# Altium schematic symbol library CAP - Surface Mount Ceramic Capacitors 0402.SchLib: 231 symbols (part 5 of 6)
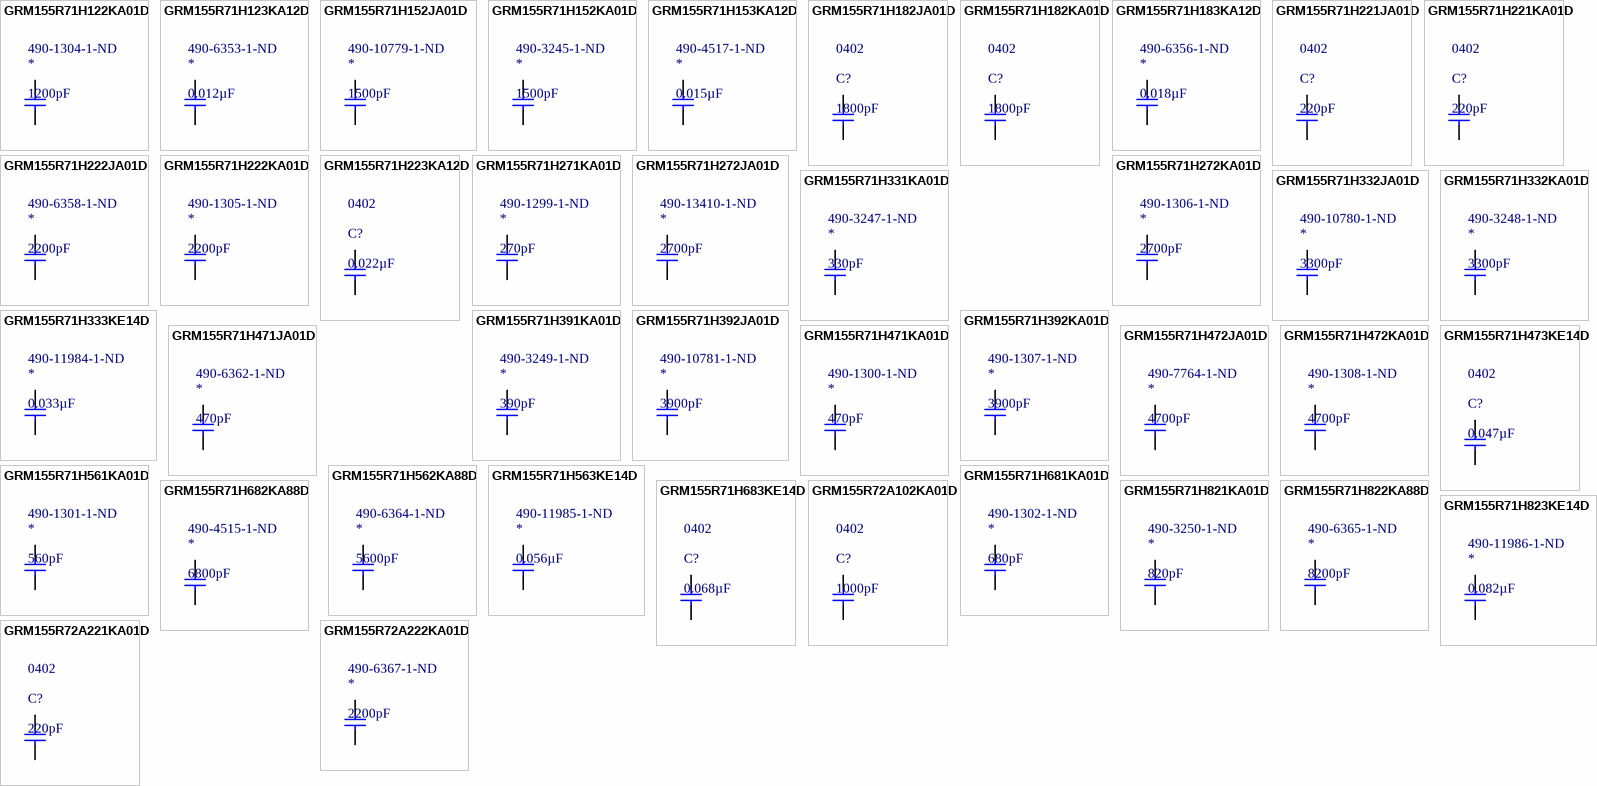
[diagram p9: symbols GRM155R71H122KA01D to GRM155R72A222KA01D]

## GRM155R71H221JA01D
designator C?, comment 220pF  Package: 0402
CAP CER 220PF 50V X7R 0402; Manufacturer: Murata Electronics North America; Manufacturer Part Number: GRM155R71H221JA01D; Tolerance: ±5%; Supplier 1: Digi-Key; RoHS: RoHS Compliant; Category: Capacitors; Stock 1: 58000; Pricing 1: 1=0.1, 10=0.017, 50=0.0092, 100=0.0078, 250=0.00636, 500=0.00544, 1000=0.00424, 5000=0.00354 (USD); Packaging: Cut Tape (CT); Part Status: Active; Capacitance: 220pF; Voltage - Rated: 50V; Temperature Coefficient: X7R; Operating Temperature: -55°C ~ 125°C; Features: -; Ratings: -; Applications: General Purpose; Mounting Type: Surface Mount, MLCC; Size / Dimension: 0.039" L x 0.020" W (1.00mm x 0.50mm); Height - Seated (Max): -; Thickness (Max): 0.022" (0.55mm); Lead Spacing: -; ComponentLink1URL: http://www.murata.com/~/media/webrenewal/support/library/catalog/products/capacitor/mlcc/c02e.ashx; ComponentLink1Description: http://www.murata.com/~/media/webrenewal/support/library/catalog/products/capacitor/mlcc/c02e.ashx; Supplier Part Number 1: 490-6357-1-ND
footprint C 0402 (Chip Capacitor, 2-Leads, Body 1.0x0.5mm, IPC Medium Density)
pins: 1, 2

## GRM155R71H221KA01D
designator C?, comment 220pF  Package: 0402
CAP CER 220PF 50V X7R 0402; Manufacturer: Murata Electronics North America; Manufacturer Part Number: GRM155R71H221KA01D; Tolerance: ±10%; Supplier 1: Digi-Key; RoHS: RoHS Compliant; Category: Capacitors; Stock 1: 517258; Pricing 1: 1=0.1, 10=0.02, 50=0.011, 100=0.0093, 250=0.00764, 500=0.00654, 1000=0.00509, 5000=0.00424 (USD); Packaging: Cut Tape (CT); Part Status: Active; Capacitance: 220pF; Voltage - Rated: 50V; Temperature Coefficient: X7R; Operating Temperature: -55°C ~ 125°C; Features: -; Ratings: -; Applications: General Purpose; Mounting Type: Surface Mount, MLCC; Size / Dimension: 0.039" L x 0.020" W (1.00mm x 0.50mm); Height - Seated (Max): -; Thickness (Max): 0.022" (0.55mm); Lead Spacing: -; Lead Style: -; ComponentLink1URL: http://www.murata.com/~/media/webrenewal/support/library/catalog/products/capacitor/mlcc/c02e.ashx; ComponentLink1Description: http://www.murata.com/~/media/webrenewal/support/library/catalog/products/capacitor/mlcc/c02e.ashx; Supplier Part Number 1: 490-1298-1-ND
footprint C 0402 (Chip Capacitor, 2-Leads, Body 1.0x0.5mm, IPC Medium Density)
pins: 1, 2

## GRM155R71H222JA01D
designator *, comment 2200pF  Supplier Part Number 1: 490-6358-1-ND
CAP CER 2200PF 50V X7R 0402; Manufacturer: Murata Electronics North America; Manufacturer Part Number: GRM155R71H222JA01D; Tolerance: ±5%; Supplier 1: Digi-Key; RoHS: RoHS Compliant; Category: Capacitors; Stock 1: 281187; Pricing 1: 1=0.1, 10=0.013, 50=0.0068, 100=0.0058, 250=0.00472, 500=0.00404, 1000=0.00315, 5000=0.00263 (USD); Packaging: Cut Tape (CT); Part Status: Active; Capacitance: 2200pF; Voltage - Rated: 50V; Temperature Coefficient: X7R; Operating Temperature: -55°C ~ 125°C; Features: -; Ratings: -; Applications: General Purpose; Mounting Type: Surface Mount, MLCC; Package: 0402; Size / Dimension: 0.039" L x 0.020" W (1.00mm x 0.50mm); Height - Seated (Max): -; Thickness (Max): 0.022" (0.55mm); Lead Spacing: -; ComponentLink1URL: http://www.murata.com/~/media/webrenewal/support/library/catalog/products/capacitor/mlcc/c02e.ashx; ComponentLink1Description: http://www.murata.com/~/media/webrenewal/support/library/catalog/products/capacitor/mlcc/c02e.ashx
footprint C 0402 (Chip Capacitor, 2-Leads, Body 1.0x0.5mm, IPC Medium Density)
pins: 1, 2

## GRM155R71H222KA01D
designator *, comment 2200pF  Supplier Part Number 1: 490-1305-1-ND
CAP CER 2200PF 50V X7R 0402; Manufacturer: Murata Electronics North America; Manufacturer Part Number: GRM155R71H222KA01D; Tolerance: ±10%; Supplier 1: Digi-Key; RoHS: RoHS Compliant; Category: Capacitors; Stock 1: 2322112; Pricing 1: 1=0.1, 10=0.013, 50=0.0068, 100=0.0058, 250=0.00472, 500=0.00404, 1000=0.00315, 5000=0.00263 (USD); Packaging: Cut Tape (CT); Part Status: Active; Capacitance: 2200pF; Voltage - Rated: 50V; Temperature Coefficient: X7R; Operating Temperature: -55°C ~ 125°C; Features: -; Ratings: -; Applications: General Purpose; Mounting Type: Surface Mount, MLCC; Package: 0402; Size / Dimension: 0.039" L x 0.020" W (1.00mm x 0.50mm); Height - Seated (Max): -; Thickness (Max): 0.022" (0.55mm); Lead Spacing: -; Lead Style: -; ComponentLink1URL: http://www.murata.com/~/media/webrenewal/support/library/catalog/products/capacitor/mlcc/c02e.ashx; ComponentLink1Description: http://www.murata.com/~/media/webrenewal/support/library/catalog/products/capacitor/mlcc/c02e.ashx
footprint C 0402 (Chip Capacitor, 2-Leads, Body 1.0x0.5mm, IPC Medium Density)
pins: 1, 2

## GRM155R71H223KA12D
designator C?, comment 0.022µF  Package: 0402
CAP CER 0.022UF 50V X7R 0402; Manufacturer: Murata Electronics North America; Manufacturer Part Number: GRM155R71H223KA12D; Tolerance: ±10%; Supplier 1: Digi-Key; RoHS: RoHS Compliant; Category: Capacitors; Stock 1: 792812; Pricing 1: 1=0.1, 10=0.019, 50=0.0106, 100=0.0089, 250=0.00728, 500=0.00622, 1000=0.00485, 5000=0.00404 (USD); Packaging: Cut Tape (CT); Part Status: Active; Capacitance: 0.022µF; Voltage - Rated: 50V; Temperature Coefficient: X7R; Operating Temperature: -55°C ~ 125°C; Features: -; Ratings: -; Applications: General Purpose; Mounting Type: Surface Mount, MLCC; Size / Dimension: 0.039" L x 0.020" W (1.00mm x 0.50mm); Height - Seated (Max): -; Thickness (Max): 0.022" (0.55mm); Lead Spacing: -; Lead Style: -; ComponentLink1URL: http://www.murata.com/~/media/webrenewal/support/library/catalog/products/capacitor/mlcc/c02e.ashx; ComponentLink1Description: http://www.murata.com/~/media/webrenewal/support/library/catalog/products/capacitor/mlcc/c02e.ashx; Supplier Part Number 1: 490-3884-1-ND
footprint C 0402 (Chip Capacitor, 2-Leads, Body 1.0x0.5mm, IPC Medium Density)
pins: 1, 2

## GRM155R71H271KA01D
designator *, comment 270pF  Supplier Part Number 1: 490-1299-1-ND
CAP CER 270PF 50V X7R 0402; Manufacturer: Murata Electronics North America; Manufacturer Part Number: GRM155R71H271KA01D; Tolerance: ±10%; Supplier 1: Digi-Key; RoHS: RoHS Compliant; Category: Capacitors; Stock 1: 229919; Pricing 1: 1=0.1, 10=0.02, 50=0.011, 100=0.0093, 250=0.00764, 500=0.00654, 1000=0.00509, 5000=0.00424 (USD); Packaging: Cut Tape (CT); Part Status: Active; Capacitance: 270pF; Voltage - Rated: 50V; Temperature Coefficient: X7R; Operating Temperature: -55°C ~ 125°C; Features: -; Ratings: -; Applications: General Purpose; Mounting Type: Surface Mount, MLCC; Package: 0402; Size / Dimension: 0.039" L x 0.020" W (1.00mm x 0.50mm); Height - Seated (Max): -; Thickness (Max): 0.022" (0.55mm); Lead Spacing: -; Lead Style: -; ComponentLink1URL: http://www.murata.com/~/media/webrenewal/support/library/catalog/products/capacitor/mlcc/c02e.ashx; ComponentLink1Description: http://www.murata.com/~/media/webrenewal/support/library/catalog/products/capacitor/mlcc/c02e.ashx
footprint C 0402 (Chip Capacitor, 2-Leads, Body 1.0x0.5mm, IPC Medium Density)
pins: 1, 2

## GRM155R71H272JA01D
designator *, comment 2700pF  Supplier Part Number 1: 490-13410-1-ND
CAP CER 2700PF 50V X7R 0402; Manufacturer: Murata Electronics North America; Manufacturer Part Number: GRM155R71H272JA01D; Tolerance: ±5%; Supplier 1: Digi-Key; RoHS: RoHS Compliant; Category: Capacitors; Stock 1: 144080; Pricing 1: 1=0.1, 10=0.018, 50=0.0098, 100=0.0083, 250=0.0068, 500=0.00584, 1000=0.00455, 5000=0.00379 (USD); Packaging: Cut Tape (CT); Part Status: Active; Capacitance: 2700pF; Voltage - Rated: 50V; Temperature Coefficient: X7R; Operating Temperature: -55°C ~ 125°C; Features: -; Ratings: -; Applications: General Purpose; Mounting Type: Surface Mount, MLCC; Package: 0402; Size / Dimension: 0.039" L x 0.020" W (1.00mm x 0.50mm); Height - Seated (Max): -; Thickness (Max): 0.022" (0.55mm); Lead Spacing: -; Lead Style: -; ComponentLink1URL: http://www.murata.com/~/media/webrenewal/support/library/catalog/products/capacitor/mlcc/c02e.ashx; ComponentLink1Description: http://www.murata.com/~/media/webrenewal/support/library/catalog/products/capacitor/mlcc/c02e.ashx
footprint C 0402 (Chip Capacitor, 2-Leads, Body 1.0x0.5mm, IPC Medium Density)
pins: 1, 2

## GRM155R71H272KA01D
designator *, comment 2700pF  Supplier Part Number 1: 490-1306-1-ND
CAP CER 2700PF 50V X7R 0402; Manufacturer: Murata Electronics North America; Manufacturer Part Number: GRM155R71H272KA01D; Tolerance: ±10%; Supplier 1: Digi-Key; RoHS: RoHS Compliant; Category: Capacitors; Stock 1: 254384; Pricing 1: 1=0.1, 10=0.011, 50=0.006, 100=0.005, 250=0.00408, 500=0.0035, 1000=0.00273, 5000=0.00227 (USD); Packaging: Cut Tape (CT); Part Status: Active; Capacitance: 2700pF; Voltage - Rated: 50V; Temperature Coefficient: X7R; Operating Temperature: -55°C ~ 125°C; Features: -; Ratings: -; Applications: General Purpose; Mounting Type: Surface Mount, MLCC; Package: 0402; Size / Dimension: 0.039" L x 0.020" W (1.00mm x 0.50mm); Height - Seated (Max): -; Thickness (Max): 0.022" (0.55mm); Lead Spacing: -; Lead Style: -; ComponentLink1URL: http://www.murata.com/~/media/webrenewal/support/library/catalog/products/capacitor/mlcc/c02e.ashx; ComponentLink1Description: http://www.murata.com/~/media/webrenewal/support/library/catalog/products/capacitor/mlcc/c02e.ashx
footprint C 0402 (Chip Capacitor, 2-Leads, Body 1.0x0.5mm, IPC Medium Density)
pins: 1, 2

## GRM155R71H331KA01D
designator *, comment 330pF  Supplier Part Number 1: 490-3247-1-ND
CAP CER 330PF 50V X7R 0402; Manufacturer: Murata Electronics North America; Manufacturer Part Number: GRM155R71H331KA01D; Tolerance: ±10%; Supplier 1: Digi-Key; RoHS: RoHS Compliant; Category: Capacitors; Stock 1: 481505; Pricing 1: 1=0.1, 10=0.02, 50=0.011, 100=0.0093, 250=0.00764, 500=0.00654, 1000=0.00509, 5000=0.00424 (USD); Packaging: Cut Tape (CT); Part Status: Active; Capacitance: 330pF; Voltage - Rated: 50V; Temperature Coefficient: X7R; Operating Temperature: -55°C ~ 125°C; Features: -; Ratings: -; Applications: General Purpose; Mounting Type: Surface Mount, MLCC; Package: 0402; Size / Dimension: 0.039" L x 0.020" W (1.00mm x 0.50mm); Height - Seated (Max): -; Thickness (Max): 0.022" (0.55mm); Lead Spacing: -; Lead Style: -; ComponentLink1URL: http://www.murata.com/~/media/webrenewal/support/library/catalog/products/capacitor/mlcc/c02e.ashx; ComponentLink1Description: http://www.murata.com/~/media/webrenewal/support/library/catalog/products/capacitor/mlcc/c02e.ashx
footprint C 0402 (Chip Capacitor, 2-Leads, Body 1.0x0.5mm, IPC Medium Density)
pins: 1, 2

## GRM155R71H332JA01D
designator *, comment 3300pF  Supplier Part Number 1: 490-10780-1-ND
CAP CER 3300PF 50V X7R 0402; Manufacturer: Murata Electronics North America; Manufacturer Part Number: GRM155R71H332JA01D; Tolerance: ±5%; Supplier 1: Digi-Key; RoHS: RoHS Compliant; Category: Capacitors; Stock 1: 159582; Pricing 1: 1=0.1, 10=0.018, 50=0.0098, 100=0.0083, 250=0.0068, 500=0.00584, 1000=0.00455, 5000=0.00379 (USD); Packaging: Cut Tape (CT); Part Status: Active; Capacitance: 3300pF; Voltage - Rated: 50V; Temperature Coefficient: X7R; Operating Temperature: -55°C ~ 125°C; Features: -; Ratings: -; Applications: General Purpose; Mounting Type: Surface Mount, MLCC; Package: 0402; Size / Dimension: 0.039" L x 0.020" W (1.00mm x 0.50mm); Height - Seated (Max): -; Thickness (Max): 0.022" (0.55mm); Lead Spacing: -; Lead Style: -; ComponentLink1URL: http://www.murata.com/~/media/webrenewal/support/library/catalog/products/capacitor/mlcc/c02e.ashx; ComponentLink1Description: http://www.murata.com/~/media/webrenewal/support/library/catalog/products/capacitor/mlcc/c02e.ashx
footprint C 0402 (Chip Capacitor, 2-Leads, Body 1.0x0.5mm, IPC Medium Density)
pins: 1, 2

## GRM155R71H332KA01D
designator *, comment 3300pF  Supplier Part Number 1: 490-3248-1-ND
CAP CER 3300PF 50V X7R 0402; Manufacturer: Murata Electronics North America; Manufacturer Part Number: GRM155R71H332KA01D; Tolerance: ±10%; Supplier 1: Digi-Key; RoHS: RoHS Compliant; Category: Capacitors; Stock 1: 729157; Pricing 1: 1=0.1, 10=0.011, 50=0.006, 100=0.005, 250=0.00408, 500=0.0035, 1000=0.00273, 5000=0.00227 (USD); Packaging: Cut Tape (CT); Part Status: Active; Capacitance: 3300pF; Voltage - Rated: 50V; Temperature Coefficient: X7R; Operating Temperature: -55°C ~ 125°C; Features: -; Ratings: -; Applications: General Purpose; Mounting Type: Surface Mount, MLCC; Package: 0402; Size / Dimension: 0.039" L x 0.020" W (1.00mm x 0.50mm); Height - Seated (Max): -; Thickness (Max): 0.022" (0.55mm); Lead Spacing: -; Lead Style: -; ComponentLink1URL: http://www.murata.com/~/media/webrenewal/support/library/catalog/products/capacitor/mlcc/c02e.ashx; ComponentLink1Description: http://www.murata.com/~/media/webrenewal/support/library/catalog/products/capacitor/mlcc/c02e.ashx
footprint C 0402 (Chip Capacitor, 2-Leads, Body 1.0x0.5mm, IPC Medium Density)
pins: 1, 2

## GRM155R71H333KE14D
designator *, comment 0.033µF  Supplier Part Number 1: 490-11984-1-ND
CAP CER 0.033UF 50V X7R 0402; Manufacturer: Murata Electronics North America; Manufacturer Part Number: GRM155R71H333KE14D; Tolerance: ±10%; Supplier 1: Digi-Key; RoHS: RoHS Compliant; Category: Capacitors; Stock 1: 62472; Pricing 1: 1=0.1, 10=0.029, 50=0.0158, 100=0.0133, 250=0.01092, 500=0.00934, 1000=0.00727, 5000=0.00606 (USD); Packaging: Cut Tape (CT); Part Status: Active; Capacitance: 0.033µF; Voltage - Rated: 50V; Temperature Coefficient: X7R; Operating Temperature: -55°C ~ 125°C; Features: -; Ratings: -; Applications: General Purpose; Mounting Type: Surface Mount, MLCC; Package: 0402; Size / Dimension: 0.039" L x 0.020" W (1.00mm x 0.50mm); Height - Seated (Max): -; Thickness (Max): 0.022" (0.55mm); Lead Spacing: -; Lead Style: -; ComponentLink1URL: http://www.murata.com/~/media/webrenewal/support/library/catalog/products/capacitor/mlcc/c02e.ashx; ComponentLink1Description: http://www.murata.com/~/media/webrenewal/support/library/catalog/products/capacitor/mlcc/c02e.ashx
footprint C 0402 (Chip Capacitor, 2-Leads, Body 1.0x0.5mm, IPC Medium Density)
pins: 1, 2

## GRM155R71H391KA01D
designator *, comment 390pF  Supplier Part Number 1: 490-3249-1-ND
CAP CER 390PF 50V X7R 0402; Manufacturer: Murata Electronics North America; Manufacturer Part Number: GRM155R71H391KA01D; Tolerance: ±10%; Supplier 1: Digi-Key; RoHS: RoHS Compliant; Category: Capacitors; Stock 1: 97790; Pricing 1: 1=0.1, 10=0.018, 50=0.0098, 100=0.0083, 250=0.0068, 500=0.00584, 1000=0.00455, 5000=0.00379 (USD); Packaging: Cut Tape (CT); Part Status: Active; Capacitance: 390pF; Voltage - Rated: 50V; Temperature Coefficient: X7R; Operating Temperature: -55°C ~ 125°C; Features: -; Ratings: -; Applications: General Purpose; Mounting Type: Surface Mount, MLCC; Package: 0402; Size / Dimension: 0.039" L x 0.020" W (1.00mm x 0.50mm); Height - Seated (Max): -; Thickness (Max): 0.022" (0.55mm); Lead Spacing: -; Lead Style: -; ComponentLink1URL: http://www.murata.com/~/media/webrenewal/support/library/catalog/products/capacitor/mlcc/c02e.ashx; ComponentLink1Description: http://www.murata.com/~/media/webrenewal/support/library/catalog/products/capacitor/mlcc/c02e.ashx
footprint C 0402 (Chip Capacitor, 2-Leads, Body 1.0x0.5mm, IPC Medium Density)
pins: 1, 2

## GRM155R71H392JA01D
designator *, comment 3900pF  Supplier Part Number 1: 490-10781-1-ND
CAP CER 3900PF 50V X7R 0402; Manufacturer: Murata Electronics North America; Manufacturer Part Number: GRM155R71H392JA01D; Tolerance: ±5%; Supplier 1: Digi-Key; RoHS: RoHS Compliant; Category: Capacitors; Stock 1: 31458; Pricing 1: 1=0.1, 10=0.018, 50=0.0098, 100=0.0083, 250=0.0068, 500=0.00584, 1000=0.00455, 5000=0.00379 (USD); Packaging: Cut Tape (CT); Part Status: Active; Capacitance: 3900pF; Voltage - Rated: 50V; Temperature Coefficient: X7R; Operating Temperature: -55°C ~ 125°C; Features: -; Ratings: -; Applications: General Purpose; Mounting Type: Surface Mount, MLCC; Package: 0402; Size / Dimension: 0.039" L x 0.020" W (1.00mm x 0.50mm); Height - Seated (Max): -; Thickness (Max): 0.022" (0.55mm); Lead Spacing: -; Lead Style: -; ComponentLink1URL: http://www.murata.com/~/media/webrenewal/support/library/catalog/products/capacitor/mlcc/c02e.ashx; ComponentLink1Description: http://www.murata.com/~/media/webrenewal/support/library/catalog/products/capacitor/mlcc/c02e.ashx
footprint C 0402 (Chip Capacitor, 2-Leads, Body 1.0x0.5mm, IPC Medium Density)
pins: 1, 2

## GRM155R71H392KA01D
designator *, comment 3900pF  Supplier Part Number 1: 490-1307-1-ND
CAP CER 3900PF 50V X7R 0402; Manufacturer: Murata Electronics North America; Manufacturer Part Number: GRM155R71H392KA01D; Tolerance: ±10%; Supplier 1: Digi-Key; RoHS: RoHS Compliant; Category: Capacitors; Stock 1: 275703; Pricing 1: 1=0.1, 10=0.011, 50=0.006, 100=0.005, 250=0.00408, 500=0.0035, 1000=0.00273, 5000=0.00227 (USD); Packaging: Cut Tape (CT); Part Status: Active; Capacitance: 3900pF; Voltage - Rated: 50V; Temperature Coefficient: X7R; Operating Temperature: -55°C ~ 125°C; Features: -; Ratings: -; Applications: General Purpose; Mounting Type: Surface Mount, MLCC; Package: 0402; Size / Dimension: 0.039" L x 0.020" W (1.00mm x 0.50mm); Height - Seated (Max): -; Thickness (Max): 0.022" (0.55mm); Lead Spacing: -; Lead Style: -; ComponentLink1URL: http://www.murata.com/~/media/webrenewal/support/library/catalog/products/capacitor/mlcc/c02e.ashx; ComponentLink1Description: http://www.murata.com/~/media/webrenewal/support/library/catalog/products/capacitor/mlcc/c02e.ashx
footprint C 0402 (Chip Capacitor, 2-Leads, Body 1.0x0.5mm, IPC Medium Density)
pins: 1, 2

## GRM155R71H471JA01D
designator *, comment 470pF  Supplier Part Number 1: 490-6362-1-ND
CAP CER 470PF 50V X7R 0402; Manufacturer: Murata Electronics North America; Manufacturer Part Number: GRM155R71H471JA01D; Tolerance: ±5%; Supplier 1: Digi-Key; RoHS: RoHS Compliant; Category: Capacitors; Stock 1: 103130; Pricing 1: 1=0.1, 10=0.021, 50=0.0116, 100=0.0098, 250=0.008, 500=0.00684, 1000=0.00533, 5000=0.00444 (USD); Packaging: Cut Tape (CT); Part Status: Active; Capacitance: 470pF; Voltage - Rated: 50V; Temperature Coefficient: X7R; Operating Temperature: -55°C ~ 125°C; Features: -; Ratings: -; Applications: General Purpose; Mounting Type: Surface Mount, MLCC; Package: 0402; Size / Dimension: 0.039" L x 0.020" W (1.00mm x 0.50mm); Height - Seated (Max): -; Thickness (Max): 0.022" (0.55mm); Lead Spacing: -; ComponentLink1URL: http://www.murata.com/~/media/webrenewal/support/library/catalog/products/capacitor/mlcc/c02e.ashx; ComponentLink1Description: http://www.murata.com/~/media/webrenewal/support/library/catalog/products/capacitor/mlcc/c02e.ashx
footprint C 0402 (Chip Capacitor, 2-Leads, Body 1.0x0.5mm, IPC Medium Density)
pins: 1, 2

## GRM155R71H471KA01D
designator *, comment 470pF  Supplier Part Number 1: 490-1300-1-ND
CAP CER 470PF 50V X7R 0402; Manufacturer: Murata Electronics North America; Manufacturer Part Number: GRM155R71H471KA01D; Tolerance: ±10%; Supplier 1: Digi-Key; RoHS: RoHS Compliant; Category: Capacitors; Stock 1: 904738; Pricing 1: 1=0.1, 10=0.018, 50=0.0098, 100=0.0083, 250=0.0068, 500=0.00584, 1000=0.00455, 5000=0.00379 (USD); Packaging: Cut Tape (CT); Part Status: Active; Capacitance: 470pF; Voltage - Rated: 50V; Temperature Coefficient: X7R; Operating Temperature: -55°C ~ 125°C; Features: -; Ratings: -; Applications: General Purpose; Mounting Type: Surface Mount, MLCC; Package: 0402; Size / Dimension: 0.039" L x 0.020" W (1.00mm x 0.50mm); Height - Seated (Max): -; Thickness (Max): 0.022" (0.55mm); Lead Spacing: -; Lead Style: -; ComponentLink1URL: http://www.murata.com/~/media/webrenewal/support/library/catalog/products/capacitor/mlcc/c02e.ashx; ComponentLink1Description: http://www.murata.com/~/media/webrenewal/support/library/catalog/products/capacitor/mlcc/c02e.ashx
footprint C 0402 (Chip Capacitor, 2-Leads, Body 1.0x0.5mm, IPC Medium Density)
pins: 1, 2

## GRM155R71H472JA01D
designator *, comment 4700pF  Supplier Part Number 1: 490-7764-1-ND
CAP CER 4700PF 50V X7R 0402; Manufacturer: Murata Electronics North America; Manufacturer Part Number: GRM155R71H472JA01D; Tolerance: ±5%; Supplier 1: Digi-Key; RoHS: RoHS Compliant; Category: Capacitors; Stock 1: 219962; Pricing 1: 1=0.1, 10=0.012, 50=0.0066, 100=0.0056, 250=0.00456, 500=0.00388, 1000=0.00303, 5000=0.00253 (USD); Packaging: Cut Tape (CT); Part Status: Active; Capacitance: 4700pF; Voltage - Rated: 50V; Temperature Coefficient: X7R; Operating Temperature: -55°C ~ 125°C; Features: -; Ratings: -; Applications: General Purpose; Mounting Type: Surface Mount, MLCC; Package: 0402; Size / Dimension: 0.039" L x 0.020" W (1.00mm x 0.50mm); Height - Seated (Max): -; Thickness (Max): 0.022" (0.55mm); Lead Spacing: -; Lead Style: -; ComponentLink1URL: http://www.murata.com/~/media/webrenewal/support/library/catalog/products/capacitor/mlcc/c02e.ashx; ComponentLink1Description: http://www.murata.com/~/media/webrenewal/support/library/catalog/products/capacitor/mlcc/c02e.ashx
footprint C 0402 (Chip Capacitor, 2-Leads, Body 1.0x0.5mm, IPC Medium Density)
pins: 1, 2

## GRM155R71H472KA01D
designator *, comment 4700pF  Supplier Part Number 1: 490-1308-1-ND
CAP CER 4700PF 50V X7R 0402; Manufacturer: Murata Electronics North America; Manufacturer Part Number: GRM155R71H472KA01D; Tolerance: ±10%; Supplier 1: Digi-Key; RoHS: RoHS Compliant; Category: Capacitors; Stock 1: 550595; Pricing 1: 1=0.1, 10=0.011, 50=0.006, 100=0.005, 250=0.00408, 500=0.0035, 1000=0.00273, 5000=0.00227 (USD); Packaging: Cut Tape (CT); Part Status: Active; Capacitance: 4700pF; Voltage - Rated: 50V; Temperature Coefficient: X7R; Operating Temperature: -55°C ~ 125°C; Features: -; Ratings: -; Applications: General Purpose; Mounting Type: Surface Mount, MLCC; Package: 0402; Size / Dimension: 0.039" L x 0.020" W (1.00mm x 0.50mm); Height - Seated (Max): -; Thickness (Max): 0.022" (0.55mm); Lead Spacing: -; Lead Style: -; ComponentLink1URL: http://www.murata.com/~/media/webrenewal/support/library/catalog/products/capacitor/mlcc/c02e.ashx; ComponentLink1Description: http://www.murata.com/~/media/webrenewal/support/library/catalog/products/capacitor/mlcc/c02e.ashx
footprint C 0402 (Chip Capacitor, 2-Leads, Body 1.0x0.5mm, IPC Medium Density)
pins: 1, 2

## GRM155R71H473KE14D
designator C?, comment 0.047µF  Package: 0402
CAP CER 0.047UF 50V X7R 0402; Manufacturer: Murata Electronics North America; Manufacturer Part Number: GRM155R71H473KE14D; Tolerance: ±10%; Supplier 1: Digi-Key; RoHS: RoHS Compliant; Category: Capacitors; Stock 1: 191106; Pricing 1: 1=0.1, 10=0.029, 50=0.0158, 100=0.0133, 250=0.01092, 500=0.00934, 1000=0.00727, 5000=0.00606 (USD); Packaging: Cut Tape (CT); Part Status: Active; Capacitance: 0.047µF; Voltage - Rated: 50V; Temperature Coefficient: X7R; Operating Temperature: -55°C ~ 125°C; Features: -; Ratings: -; Applications: General Purpose; Mounting Type: Surface Mount, MLCC; Size / Dimension: 0.039" L x 0.020" W (1.00mm x 0.50mm); Height - Seated (Max): -; Thickness (Max): 0.022" (0.55mm); Lead Spacing: -; Lead Style: -; ComponentLink1URL: http://www.murata.com/~/media/webrenewal/support/library/catalog/products/capacitor/mlcc/c02e.ashx; ComponentLink1Description: http://www.murata.com/~/media/webrenewal/support/library/catalog/products/capacitor/mlcc/c02e.ashx; Supplier Part Number 1: 490-10702-1-ND
footprint C 0402 (Chip Capacitor, 2-Leads, Body 1.0x0.5mm, IPC Medium Density)
pins: 1, 2

## GRM155R71H561KA01D
designator *, comment 560pF  Supplier Part Number 1: 490-1301-1-ND
CAP CER 560PF 50V X7R 0402; Manufacturer: Murata Electronics North America; Manufacturer Part Number: GRM155R71H561KA01D; Tolerance: ±10%; Supplier 1: Digi-Key; RoHS: RoHS Compliant; Category: Capacitors; Stock 1: 218609; Pricing 1: 1=0.1, 10=0.018, 50=0.0098, 100=0.0083, 250=0.0068, 500=0.00584, 1000=0.00455, 5000=0.00379 (USD); Packaging: Cut Tape (CT); Part Status: Active; Capacitance: 560pF; Voltage - Rated: 50V; Temperature Coefficient: X7R; Operating Temperature: -55°C ~ 125°C; Features: -; Ratings: -; Applications: General Purpose; Mounting Type: Surface Mount, MLCC; Package: 0402; Size / Dimension: 0.039" L x 0.020" W (1.00mm x 0.50mm); Height - Seated (Max): -; Thickness (Max): 0.022" (0.55mm); Lead Spacing: -; Lead Style: -; ComponentLink1URL: http://www.murata.com/~/media/webrenewal/support/library/catalog/products/capacitor/mlcc/c02e.ashx; ComponentLink1Description: http://www.murata.com/~/media/webrenewal/support/library/catalog/products/capacitor/mlcc/c02e.ashx
footprint C 0402 (Chip Capacitor, 2-Leads, Body 1.0x0.5mm, IPC Medium Density)
pins: 1, 2

## GRM155R71H562KA88D
designator *, comment 5600pF  Supplier Part Number 1: 490-6364-1-ND
CAP CER 5600PF 50V X7R 0402; Manufacturer: Murata Electronics North America; Manufacturer Part Number: GRM155R71H562KA88D; Tolerance: ±10%; Supplier 1: Digi-Key; RoHS: RoHS Compliant; Category: Capacitors; Stock 1: 104896; Pricing 1: 1=0.1, 10=0.011, 50=0.006, 100=0.005, 250=0.00408, 500=0.0035, 1000=0.00273, 5000=0.00227 (USD); Packaging: Cut Tape (CT); Part Status: Active; Capacitance: 5600pF; Voltage - Rated: 50V; Temperature Coefficient: X7R; Operating Temperature: -55°C ~ 125°C; Features: -; Ratings: -; Applications: General Purpose; Mounting Type: Surface Mount, MLCC; Package: 0402; Size / Dimension: 0.039" L x 0.020" W (1.00mm x 0.50mm); Height - Seated (Max): -; Thickness (Max): 0.022" (0.55mm); Lead Spacing: -; ComponentLink1URL: http://www.murata.com/~/media/webrenewal/support/library/catalog/products/capacitor/mlcc/c02e.ashx; ComponentLink1Description: http://www.murata.com/~/media/webrenewal/support/library/catalog/products/capacitor/mlcc/c02e.ashx
footprint C 0402 (Chip Capacitor, 2-Leads, Body 1.0x0.5mm, IPC Medium Density)
pins: 1, 2

## GRM155R71H563KE14D
designator *, comment 0.056µF  Supplier Part Number 1: 490-11985-1-ND
CAP CER 0.056UF 50V X7R 0402; Manufacturer: Murata Electronics North America; Manufacturer Part Number: GRM155R71H563KE14D; Tolerance: ±10%; Supplier 1: Digi-Key; RoHS: RoHS Compliant; Category: Capacitors; Stock 1: 66891; Pricing 1: 1=0.1, 10=0.029, 50=0.0158, 100=0.0133, 250=0.01092, 500=0.00934, 1000=0.00727, 5000=0.00606 (USD); Packaging: Cut Tape (CT); Part Status: Active; Capacitance: 0.056µF; Voltage - Rated: 50V; Temperature Coefficient: X7R; Operating Temperature: -55°C ~ 125°C; Features: -; Ratings: -; Applications: General Purpose; Mounting Type: Surface Mount, MLCC; Package: 0402; Size / Dimension: 0.039" L x 0.020" W (1.00mm x 0.50mm); Height - Seated (Max): -; Thickness (Max): 0.022" (0.55mm); Lead Spacing: -; Lead Style: -; ComponentLink1URL: http://www.murata.com/~/media/webrenewal/support/library/catalog/products/capacitor/mlcc/c02e.ashx; ComponentLink1Description: http://www.murata.com/~/media/webrenewal/support/library/catalog/products/capacitor/mlcc/c02e.ashx
footprint C 0402 (Chip Capacitor, 2-Leads, Body 1.0x0.5mm, IPC Medium Density)
pins: 1, 2

## GRM155R71H681KA01D
designator *, comment 680pF  Supplier Part Number 1: 490-1302-1-ND
CAP CER 680PF 50V X7R 0402; Manufacturer: Murata Electronics North America; Manufacturer Part Number: GRM155R71H681KA01D; Tolerance: ±10%; Supplier 1: Digi-Key; RoHS: RoHS Compliant; Category: Capacitors; Stock 1: 353845; Pricing 1: 1=0.1, 10=0.02, 50=0.011, 100=0.0093, 250=0.00764, 500=0.00654, 1000=0.00509, 5000=0.00424 (USD); Packaging: Cut Tape (CT); Part Status: Active; Capacitance: 680pF; Voltage - Rated: 50V; Temperature Coefficient: X7R; Operating Temperature: -55°C ~ 125°C; Features: -; Ratings: -; Applications: General Purpose; Mounting Type: Surface Mount, MLCC; Package: 0402; Size / Dimension: 0.039" L x 0.020" W (1.00mm x 0.50mm); Height - Seated (Max): -; Thickness (Max): 0.022" (0.55mm); Lead Spacing: -; Lead Style: -; ComponentLink1URL: http://www.murata.com/~/media/webrenewal/support/library/catalog/products/capacitor/mlcc/c02e.ashx; ComponentLink1Description: http://www.murata.com/~/media/webrenewal/support/library/catalog/products/capacitor/mlcc/c02e.ashx
footprint C 0402 (Chip Capacitor, 2-Leads, Body 1.0x0.5mm, IPC Medium Density)
pins: 1, 2

## GRM155R71H682KA88D
designator *, comment 6800pF  Supplier Part Number 1: 490-4515-1-ND
CAP CER 6800PF 50V X7R 0402; Manufacturer: Murata Electronics North America; Manufacturer Part Number: GRM155R71H682KA88D; Tolerance: ±10%; Supplier 1: Digi-Key; RoHS: RoHS Compliant; Category: Capacitors; Stock 1: 180001; Pricing 1: 1=0.1, 10=0.011, 50=0.006, 100=0.005, 250=0.00408, 500=0.0035, 1000=0.00273, 5000=0.00227 (USD); Packaging: Cut Tape (CT); Part Status: Active; Capacitance: 6800pF; Voltage - Rated: 50V; Temperature Coefficient: X7R; Operating Temperature: -55°C ~ 125°C; Features: -; Ratings: -; Applications: General Purpose; Mounting Type: Surface Mount, MLCC; Package: 0402; Size / Dimension: 0.039" L x 0.020" W (1.00mm x 0.50mm); Height - Seated (Max): -; Thickness (Max): 0.022" (0.55mm); Lead Spacing: -; Lead Style: -; ComponentLink1URL: http://www.murata.com/~/media/webrenewal/support/library/catalog/products/capacitor/mlcc/c02e.ashx; ComponentLink1Description: http://www.murata.com/~/media/webrenewal/support/library/catalog/products/capacitor/mlcc/c02e.ashx
footprint C 0402 (Chip Capacitor, 2-Leads, Body 1.0x0.5mm, IPC Medium Density)
pins: 1, 2

## GRM155R71H683KE14D
designator C?, comment 0.068µF  Package: 0402
CAP CER 0.068UF 50V X7R 0402; Manufacturer: Murata Electronics North America; Manufacturer Part Number: GRM155R71H683KE14D; Tolerance: ±10%; Supplier 1: Digi-Key; RoHS: RoHS Compliant; Category: Capacitors; Stock 1: 110270; Pricing 1: 1=0.1, 10=0.029, 50=0.0158, 100=0.0133, 250=0.01092, 500=0.00934, 1000=0.00727, 5000=0.00606 (USD); Packaging: Cut Tape (CT); Part Status: Active; Capacitance: 0.068µF; Voltage - Rated: 50V; Temperature Coefficient: X7R; Operating Temperature: -55°C ~ 125°C; Features: -; Ratings: -; Applications: General Purpose; Mounting Type: Surface Mount, MLCC; Size / Dimension: 0.039" L x 0.020" W (1.00mm x 0.50mm); Height - Seated (Max): -; Thickness (Max): 0.022" (0.55mm); Lead Spacing: -; Lead Style: -; ComponentLink1URL: http://www.murata.com/~/media/webrenewal/support/library/catalog/products/capacitor/mlcc/c02e.ashx; ComponentLink1Description: http://www.murata.com/~/media/webrenewal/support/library/catalog/products/capacitor/mlcc/c02e.ashx; Supplier Part Number 1: 490-12709-1-ND
footprint C 0402 (Chip Capacitor, 2-Leads, Body 1.0x0.5mm, IPC Medium Density)
pins: 1, 2

## GRM155R71H821KA01D
designator *, comment 820pF  Supplier Part Number 1: 490-3250-1-ND
CAP CER 820PF 50V X7R 0402; Manufacturer: Murata Electronics North America; Manufacturer Part Number: GRM155R71H821KA01D; Tolerance: ±10%; Supplier 1: Digi-Key; RoHS: RoHS Compliant; Category: Capacitors; Stock 1: 237926; Pricing 1: 1=0.1, 10=0.02, 50=0.011, 100=0.0093, 250=0.00764, 500=0.00654, 1000=0.00509, 5000=0.00424 (USD); Packaging: Cut Tape (CT); Part Status: Active; Capacitance: 820pF; Voltage - Rated: 50V; Temperature Coefficient: X7R; Operating Temperature: -55°C ~ 125°C; Features: -; Ratings: -; Applications: General Purpose; Mounting Type: Surface Mount, MLCC; Package: 0402; Size / Dimension: 0.039" L x 0.020" W (1.00mm x 0.50mm); Height - Seated (Max): -; Thickness (Max): 0.022" (0.55mm); Lead Spacing: -; Lead Style: -; ComponentLink1URL: http://www.murata.com/~/media/webrenewal/support/library/catalog/products/capacitor/mlcc/c02e.ashx; ComponentLink1Description: http://www.murata.com/~/media/webrenewal/support/library/catalog/products/capacitor/mlcc/c02e.ashx
footprint C 0402 (Chip Capacitor, 2-Leads, Body 1.0x0.5mm, IPC Medium Density)
pins: 1, 2

## GRM155R71H822KA88D
designator *, comment 8200pF  Supplier Part Number 1: 490-6365-1-ND
CAP CER 8200PF 50V X7R 0402; Manufacturer: Murata Electronics North America; Manufacturer Part Number: GRM155R71H822KA88D; Tolerance: ±10%; Supplier 1: Digi-Key; RoHS: RoHS Compliant; Category: Capacitors; Stock 1: 42320; Pricing 1: 1=0.1, 10=0.042, 50=0.023, 100=0.0194, 250=0.01592, 500=0.0136, 1000=0.01061, 5000=0.00884 (USD); Packaging: Cut Tape (CT); Part Status: Active; Capacitance: 8200pF; Voltage - Rated: 50V; Temperature Coefficient: X7R; Operating Temperature: -55°C ~ 125°C; Features: -; Ratings: -; Applications: General Purpose; Mounting Type: Surface Mount, MLCC; Package: 0402; Size / Dimension: 0.039" L x 0.020" W (1.00mm x 0.50mm); Height - Seated (Max): -; Thickness (Max): 0.022" (0.55mm); Lead Spacing: -; ComponentLink1URL: http://www.murata.com/~/media/webrenewal/support/library/catalog/products/capacitor/mlcc/c02e.ashx; ComponentLink1Description: http://www.murata.com/~/media/webrenewal/support/library/catalog/products/capacitor/mlcc/c02e.ashx
footprint C 0402 (Chip Capacitor, 2-Leads, Body 1.0x0.5mm, IPC Medium Density)
pins: 1, 2

## GRM155R71H823KE14D
designator *, comment 0.082µF  Supplier Part Number 1: 490-11986-1-ND
CAP CER 0.082UF 50V X7R 0402; Manufacturer: Murata Electronics North America; Manufacturer Part Number: GRM155R71H823KE14D; Tolerance: ±10%; Supplier 1: Digi-Key; RoHS: RoHS Compliant; Category: Capacitors; Stock 1: 19456; Pricing 1: 1=0.1, 10=0.029, 50=0.0158, 100=0.0133, 250=0.01092, 500=0.00934, 1000=0.00727, 5000=0.00606 (USD); Packaging: Cut Tape (CT); Part Status: Active; Capacitance: 0.082µF; Voltage - Rated: 50V; Temperature Coefficient: X7R; Operating Temperature: -55°C ~ 125°C; Features: -; Ratings: -; Applications: General Purpose; Mounting Type: Surface Mount, MLCC; Package: 0402; Size / Dimension: 0.039" L x 0.020" W (1.00mm x 0.50mm); Height - Seated (Max): -; Thickness (Max): 0.022" (0.55mm); Lead Spacing: -; Lead Style: -; ComponentLink1URL: http://www.murata.com/~/media/webrenewal/support/library/catalog/products/capacitor/mlcc/c02e.ashx; ComponentLink1Description: http://www.murata.com/~/media/webrenewal/support/library/catalog/products/capacitor/mlcc/c02e.ashx
footprint C 0402 (Chip Capacitor, 2-Leads, Body 1.0x0.5mm, IPC Medium Density)
pins: 1, 2

## GRM155R72A102KA01D
designator C?, comment 1000pF  Package: 0402
CAP CER 1000PF 100V X7R 0402; Manufacturer: Murata Electronics North America; Manufacturer Part Number: GRM155R72A102KA01D; Tolerance: ±10%; Supplier 1: Digi-Key; RoHS: RoHS Compliant; Category: Capacitors; Stock 1: 702270; Pricing 1: 1=0.1, 10=0.018, 50=0.01, 100=0.0084, 250=0.00692, 500=0.00592, 1000=0.00461, 5000=0.00384 (USD); Packaging: Cut Tape (CT); Part Status: Active; Capacitance: 1000pF; Voltage - Rated: 100V; Temperature Coefficient: X7R; Operating Temperature: -55°C ~ 125°C; Features: -; Ratings: -; Applications: General Purpose; Mounting Type: Surface Mount, MLCC; Size / Dimension: 0.039" L x 0.020" W (1.00mm x 0.50mm); Height - Seated (Max): -; Thickness (Max): 0.022" (0.55mm); Lead Spacing: -; ComponentLink1URL: http://www.murata.com/~/media/webrenewal/support/library/catalog/products/capacitor/mlcc/c02e.ashx; ComponentLink1Description: http://www.murata.com/~/media/webrenewal/support/library/catalog/products/capacitor/mlcc/c02e.ashx; Supplier Part Number 1: 490-6366-1-ND
footprint C 0402 (Chip Capacitor, 2-Leads, Body 1.0x0.5mm, IPC Medium Density)
pins: 1, 2

## GRM155R72A221KA01D
designator C?, comment 220pF  Package: 0402
CAP CER 220PF 100V X7R 0402; Manufacturer: Murata Electronics North America; Manufacturer Part Number: GRM155R72A221KA01D; Tolerance: ±10%; Supplier 1: Digi-Key; RoHS: RoHS Compliant; Category: Capacitors; Stock 1: 97615; Pricing 1: 1=0.1, 10=0.051, 50=0.0276, 100=0.0233, 250=0.01908, 500=0.01634, 1000=0.01273, 5000=0.01061 (USD); Packaging: Cut Tape (CT); Part Status: Active; Capacitance: 220pF; Voltage - Rated: 100V; Temperature Coefficient: X7R; Operating Temperature: -55°C ~ 125°C; Features: -; Ratings: -; Applications: General Purpose; Mounting Type: Surface Mount, MLCC; Size / Dimension: 0.039" L x 0.020" W (1.00mm x 0.50mm); Height - Seated (Max): -; Thickness (Max): 0.022" (0.55mm); Lead Spacing: -; Lead Style: -; ComponentLink1URL: http://www.murata.com/~/media/webrenewal/support/library/catalog/products/capacitor/mlcc/c02e.ashx; ComponentLink1Description: http://www.murata.com/~/media/webrenewal/support/library/catalog/products/capacitor/mlcc/c02e.ashx; Supplier Part Number 1: 490-8260-1-ND
footprint C 0402 (Chip Capacitor, 2-Leads, Body 1.0x0.5mm, IPC Medium Density)
pins: 1, 2

## GRM155R72A222KA01D
designator *, comment 2200pF  Supplier Part Number 1: 490-6367-1-ND
CAP CER 2200PF 100V X7R 0402; Manufacturer: Murata Electronics North America; Manufacturer Part Number: GRM155R72A222KA01D; Tolerance: ±10%; Supplier 1: Digi-Key; RoHS: RoHS Compliant; Category: Capacitors; Stock 1: 71357; Pricing 1: 1=0.1, 10=0.024, 50=0.0132, 100=0.0111, 250=0.00908, 500=0.00778, 1000=0.00606, 5000=0.00505 (USD); Packaging: Cut Tape (CT); Part Status: Active; Capacitance: 2200pF; Voltage - Rated: 100V; Temperature Coefficient: X7R; Operating Temperature: -55°C ~ 125°C; Features: -; Ratings: -; Applications: General Purpose; Mounting Type: Surface Mount, MLCC; Package: 0402; Size / Dimension: 0.039" L x 0.020" W (1.00mm x 0.50mm); Height - Seated (Max): -; Thickness (Max): 0.022" (0.55mm); Lead Spacing: -; ComponentLink1URL: http://www.murata.com/~/media/webrenewal/support/library/catalog/products/capacitor/mlcc/c02e.ashx; ComponentLink1Description: http://www.murata.com/~/media/webrenewal/support/library/catalog/products/capacitor/mlcc/c02e.ashx
footprint C 0402 (Chip Capacitor, 2-Leads, Body 1.0x0.5mm, IPC Medium Density)
pins: 1, 2

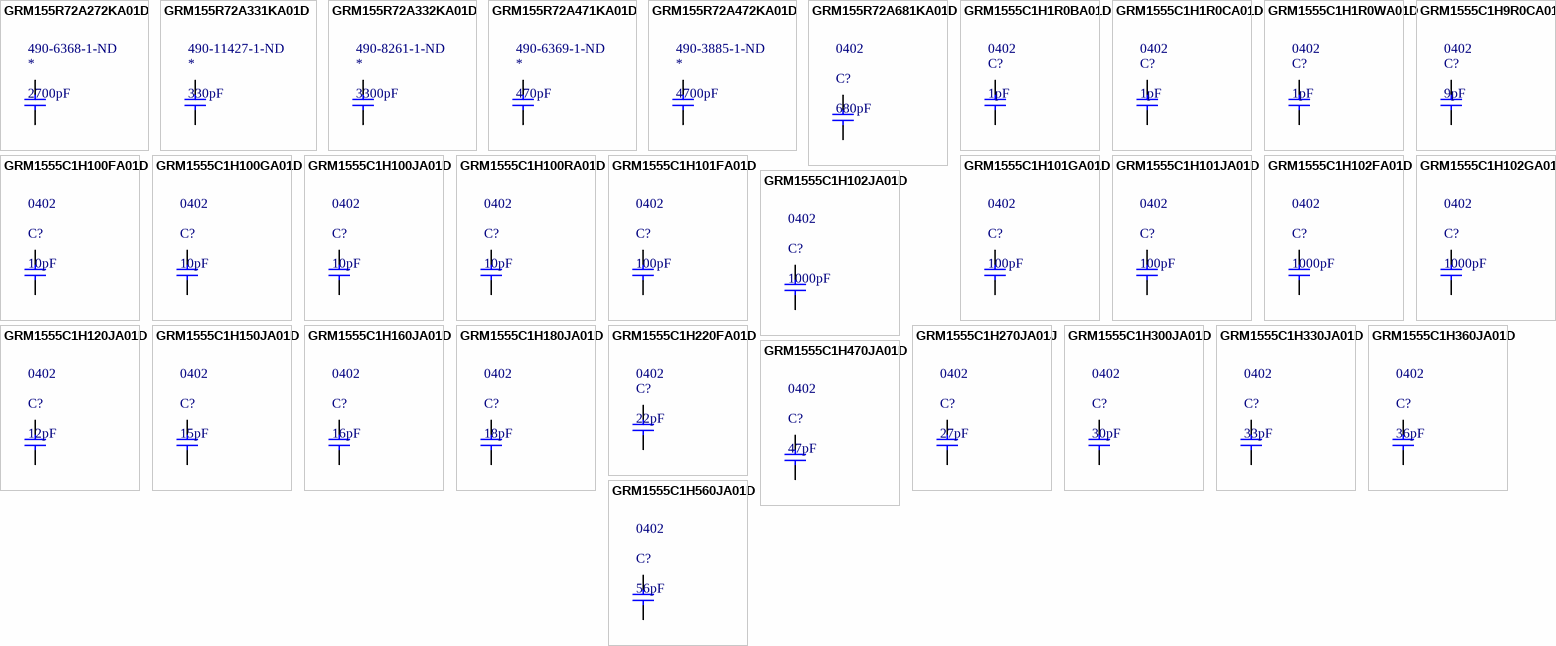
[diagram p5: symbols GRM155R72A272KA01D to GRM1555C1H560JA01D]

## GRM155R72A272KA01D
designator *, comment 2700pF  Supplier Part Number 1: 490-6368-1-ND
CAP CER 2700PF 100V X7R 0402; Manufacturer: Murata Electronics North America; Manufacturer Part Number: GRM155R72A272KA01D; Tolerance: ±10%; Supplier 1: Digi-Key; RoHS: RoHS Compliant; Category: Capacitors; Stock 1: 9912; Pricing 1: 1=0.1, 10=0.05, 50=0.027, 100=0.0228, 250=0.01864, 500=0.01594, 1000=0.01242, 5000=0.01035 (USD); Packaging: Cut Tape (CT); Part Status: Active; Capacitance: 2700pF; Voltage - Rated: 100V; Temperature Coefficient: X7R; Operating Temperature: -55°C ~ 125°C; Features: -; Ratings: -; Applications: General Purpose; Mounting Type: Surface Mount, MLCC; Package: 0402; Size / Dimension: 0.039" L x 0.020" W (1.00mm x 0.50mm); Height - Seated (Max): -; Thickness (Max): 0.022" (0.55mm); Lead Spacing: -; ComponentLink1URL: http://www.murata.com/~/media/webrenewal/support/library/catalog/products/capacitor/mlcc/c02e.ashx; ComponentLink1Description: http://www.murata.com/~/media/webrenewal/support/library/catalog/products/capacitor/mlcc/c02e.ashx
footprint C 0402 (Chip Capacitor, 2-Leads, Body 1.0x0.5mm, IPC Medium Density)
pins: 1, 2

## GRM155R72A331KA01D
designator *, comment 330pF  Supplier Part Number 1: 490-11427-1-ND
CAP CER 330PF 100V X7R 0402; Manufacturer: Murata Electronics North America; Manufacturer Part Number: GRM155R72A331KA01D; Tolerance: ±10%; Supplier 1: Digi-Key; RoHS: RoHS Compliant; Category: Capacitors; Stock 1: 14763; Pricing 1: 1=0.1, 10=0.051, 50=0.0276, 100=0.0233, 250=0.01908, 500=0.01634, 1000=0.01273, 5000=0.01061 (USD); Packaging: Cut Tape (CT); Part Status: Active; Capacitance: 330pF; Voltage - Rated: 100V; Temperature Coefficient: X7R; Operating Temperature: -55°C ~ 125°C; Features: -; Ratings: -; Applications: General Purpose; Mounting Type: Surface Mount, MLCC; Package: 0402; Size / Dimension: 0.039" L x 0.020" W (1.00mm x 0.50mm); Height - Seated (Max): -; Thickness (Max): 0.022" (0.55mm); Lead Spacing: -; Lead Style: -; ComponentLink1URL: http://www.murata.com/~/media/webrenewal/support/library/catalog/products/capacitor/mlcc/c02e.ashx; ComponentLink1Description: http://www.murata.com/~/media/webrenewal/support/library/catalog/products/capacitor/mlcc/c02e.ashx
footprint C 0402 (Chip Capacitor, 2-Leads, Body 1.0x0.5mm, IPC Medium Density)
pins: 1, 2

## GRM155R72A332KA01D
designator *, comment 3300pF  Supplier Part Number 1: 490-8261-1-ND
CAP CER 3300PF 100V X7R 0402; Manufacturer: Murata Electronics North America; Manufacturer Part Number: GRM155R72A332KA01D; Tolerance: ±10%; Supplier 1: Digi-Key; RoHS: RoHS Compliant; Category: Capacitors; Stock 1: 45384; Pricing 1: 1=0.1, 10=0.05, 50=0.027, 100=0.0228, 250=0.01864, 500=0.01594, 1000=0.01242, 5000=0.01035 (USD); Packaging: Cut Tape (CT); Part Status: Active; Capacitance: 3300pF; Voltage - Rated: 100V; Temperature Coefficient: X7R; Operating Temperature: -55°C ~ 125°C; Features: -; Ratings: -; Applications: General Purpose; Mounting Type: Surface Mount, MLCC; Package: 0402; Size / Dimension: 0.039" L x 0.020" W (1.00mm x 0.50mm); Height - Seated (Max): -; Thickness (Max): 0.022" (0.55mm); Lead Spacing: -; Lead Style: -; ComponentLink1URL: http://www.murata.com/~/media/webrenewal/support/library/catalog/products/capacitor/mlcc/c02e.ashx; ComponentLink1Description: http://www.murata.com/~/media/webrenewal/support/library/catalog/products/capacitor/mlcc/c02e.ashx
footprint C 0402 (Chip Capacitor, 2-Leads, Body 1.0x0.5mm, IPC Medium Density)
pins: 1, 2

## GRM155R72A471KA01D
designator *, comment 470pF  Supplier Part Number 1: 490-6369-1-ND
CAP CER 470PF 100V X7R 0402; Manufacturer: Murata Electronics North America; Manufacturer Part Number: GRM155R72A471KA01D; Tolerance: ±10%; Supplier 1: Digi-Key; RoHS: RoHS Compliant; Category: Capacitors; Stock 1: 117037; Pricing 1: 1=0.1, 10=0.027, 50=0.0144, 100=0.0122, 250=0.01, 500=0.00856, 1000=0.00667, 5000=0.00556 (USD); Packaging: Cut Tape (CT); Part Status: Active; Capacitance: 470pF; Voltage - Rated: 100V; Temperature Coefficient: X7R; Operating Temperature: -55°C ~ 125°C; Features: -; Ratings: -; Applications: General Purpose; Mounting Type: Surface Mount, MLCC; Package: 0402; Size / Dimension: 0.039" L x 0.020" W (1.00mm x 0.50mm); Height - Seated (Max): -; Thickness (Max): 0.022" (0.55mm); Lead Spacing: -; ComponentLink1URL: http://www.murata.com/~/media/webrenewal/support/library/catalog/products/capacitor/mlcc/c02e.ashx; ComponentLink1Description: http://www.murata.com/~/media/webrenewal/support/library/catalog/products/capacitor/mlcc/c02e.ashx
footprint C 0402 (Chip Capacitor, 2-Leads, Body 1.0x0.5mm, IPC Medium Density)
pins: 1, 2

## GRM155R72A472KA01D
designator *, comment 4700pF  Supplier Part Number 1: 490-3885-1-ND
CAP CER 4700PF 100V X7R 0402; Manufacturer: Murata Electronics North America; Manufacturer Part Number: GRM155R72A472KA01D; Tolerance: ±10%; Supplier 1: Digi-Key; RoHS: RoHS Compliant; Category: Capacitors; Stock 1: 310567; Pricing 1: 1=0.1, 10=0.019, 50=0.0106, 100=0.0089, 250=0.00728, 500=0.00622, 1000=0.00485, 5000=0.00404 (USD); Packaging: Cut Tape (CT); Part Status: Active; Capacitance: 4700pF; Voltage - Rated: 100V; Temperature Coefficient: X7R; Operating Temperature: -55°C ~ 125°C; Features: -; Ratings: -; Applications: General Purpose; Mounting Type: Surface Mount, MLCC; Package: 0402; Size / Dimension: 0.039" L x 0.020" W (1.00mm x 0.50mm); Height - Seated (Max): -; Thickness (Max): 0.022" (0.55mm); Lead Spacing: -; Lead Style: -; ComponentLink1URL: http://www.murata.com/~/media/webrenewal/support/library/catalog/products/capacitor/mlcc/c02e.ashx; ComponentLink1Description: http://www.murata.com/~/media/webrenewal/support/library/catalog/products/capacitor/mlcc/c02e.ashx
footprint C 0402 (Chip Capacitor, 2-Leads, Body 1.0x0.5mm, IPC Medium Density)
pins: 1, 2

## GRM155R72A681KA01D
designator C?, comment 680pF  Package: 0402
CAP CER 680PF 100V X7R 0402; Manufacturer: Murata Electronics North America; Manufacturer Part Number: GRM155R72A681KA01D; Tolerance: ±10%; Supplier 1: Digi-Key; RoHS: RoHS Compliant; Category: Capacitors; Stock 1: 16653; Pricing 1: 1=0.1, 10=0.051, 50=0.0276, 100=0.0233, 250=0.01908, 500=0.01634, 1000=0.01273, 5000=0.01061 (USD); Packaging: Cut Tape (CT); Part Status: Active; Capacitance: 680pF; Voltage - Rated: 100V; Temperature Coefficient: X7R; Operating Temperature: -55°C ~ 125°C; Features: -; Ratings: -; Applications: General Purpose; Mounting Type: Surface Mount, MLCC; Size / Dimension: 0.039" L x 0.020" W (1.00mm x 0.50mm); Height - Seated (Max): -; Thickness (Max): 0.022" (0.55mm); Lead Spacing: -; Lead Style: -; ComponentLink1URL: http://www.murata.com/~/media/webrenewal/support/library/catalog/products/capacitor/mlcc/c02e.ashx; ComponentLink1Description: http://www.murata.com/~/media/webrenewal/support/library/catalog/products/capacitor/mlcc/c02e.ashx; Supplier Part Number 1: 490-8262-1-ND
footprint C 0402 (Chip Capacitor, 2-Leads, Body 1.0x0.5mm, IPC Medium Density)
pins: 1, 2

## GRM1555C1H1R0BA01D
designator C?, comment 1pF  Package: 0402
CAP CER 1PF 50V NP0 0402; Manufacturer: Murata Electronics North America; Manufacturer Part Number: GRM1555C1H1R0BA01D; Tolerance: ±0.1pF; Temperature Coefficient: C0G, NP0; Supplier 1: Digi-Key; Supplier Part Number 1: 490-6206-1-ND; RoHS: RoHS Compliant; Category: Capacitors; Stock 1: 31855; Pricing 1: 1=0.1, 10=0.028, 25=0.0204, 50=0.0154, 100=0.0125, 250=0.01048, 500=0.00894, 1000=0.00703, 5000=0.00588 (USD); Packaging: Cut Tape (CT); Part Status: Active; Capacitance: 1pF; Voltage - Rated: 50V; Operating Temperature: -55°C ~ 125°C; Features: -; Ratings: -; Applications: General Purpose; Mounting Type: Surface Mount, MLCC; Size / Dimension: 0.039" L x 0.020" W (1.00mm x 0.50mm); Height - Seated (Max): -; Thickness (Max): 0.022" (0.55mm); Lead Spacing: -; Lead Style: -; ComponentLink1URL: http://www.murata.com/~/media/webrenewal/support/library/catalog/products/capacitor/mlcc/c02e.ashx; ComponentLink1Description: http://www.murata.com/~/media/webrenewal/support/library/catalog/products/capacitor/mlcc/c02e.ashx
footprint C 0402 (Chip Capacitor, 2-Leads, Body 1.0x0.5mm, IPC Medium Density)
pins: 1, 2

## GRM1555C1H1R0CA01D
designator C?, comment 1pF  Package: 0402
CAP CER 1PF 50V NP0 0402; Manufacturer: Murata Electronics North America; Manufacturer Part Number: GRM1555C1H1R0CA01D; Tolerance: ±0.25pF; Temperature Coefficient: C0G, NP0; Supplier 1: Digi-Key; Supplier Part Number 1: 490-3199-1-ND; RoHS: RoHS Compliant; Category: Capacitors; Stock 1: 467976; Pricing 1: 1=0.1, 10=0.016, 25=0.012, 50=0.009, 100=0.0073, 250=0.00608, 500=0.0052, 1000=0.00408, 5000=0.00341 (USD); Packaging: Cut Tape (CT); Part Status: Active; Capacitance: 1pF; Voltage - Rated: 50V; Operating Temperature: -55°C ~ 125°C; Features: -; Ratings: -; Applications: General Purpose; Mounting Type: Surface Mount, MLCC; Size / Dimension: 0.039" L x 0.020" W (1.00mm x 0.50mm); Height - Seated (Max): -; Thickness (Max): 0.022" (0.55mm); Lead Spacing: -; Lead Style: -; ComponentLink1URL: http://www.murata.com/~/media/webrenewal/support/library/catalog/products/capacitor/mlcc/c02e.ashx; ComponentLink1Description: http://www.murata.com/~/media/webrenewal/support/library/catalog/products/capacitor/mlcc/c02e.ashx
footprint C 0402 (Chip Capacitor, 2-Leads, Body 1.0x0.5mm, IPC Medium Density)
pins: 1, 2

## GRM1555C1H1R0WA01D
designator C?, comment 1pF  Package: 0402
CAP CER 1PF 50V NP0 0402; Manufacturer: Murata Electronics North America; Manufacturer Part Number: GRM1555C1H1R0WA01D; Tolerance: ±0.05pF; Temperature Coefficient: C0G, NP0; Supplier 1: Digi-Key; Supplier Part Number 1: 490-6207-1-ND; RoHS: RoHS Compliant; Category: Capacitors; Stock 1: 179234; Pricing 1: 1=0.1, 10=0.071, 25=0.0516, 50=0.0402, 100=0.0333, 250=0.0276, 500=0.02338, 1000=0.01936, 5000=0.01648 (USD); Packaging: Cut Tape (CT); Part Status: Active; Capacitance: 1pF; Voltage - Rated: 50V; Operating Temperature: -55°C ~ 125°C; Features: -; Ratings: -; Applications: General Purpose; Mounting Type: Surface Mount, MLCC; Size / Dimension: 0.039" L x 0.020" W (1.00mm x 0.50mm); Height - Seated (Max): -; Thickness (Max): 0.022" (0.55mm); Lead Spacing: -; Lead Style: -; ComponentLink1URL: http://www.murata.com/~/media/webrenewal/support/library/catalog/products/capacitor/mlcc/c02e.ashx; ComponentLink1Description: http://www.murata.com/~/media/webrenewal/support/library/catalog/products/capacitor/mlcc/c02e.ashx
footprint C 0402 (Chip Capacitor, 2-Leads, Body 1.0x0.5mm, IPC Medium Density)
pins: 1, 2

## GRM1555C1H9R0CA01D
designator C?, comment 9pF  Package: 0402
CAP CER 9PF 50V NP0 0402; Manufacturer: Murata Electronics North America; Manufacturer Part Number: GRM1555C1H9R0CA01D; Tolerance: ±0.25pF; Temperature Coefficient: C0G, NP0; Supplier 1: Digi-Key; Supplier Part Number 1: 490-8232-1-ND; RoHS: RoHS Compliant; Category: Capacitors; Stock 1: 39178; Pricing 1: 1=0.1, 10=0.013, 25=0.0092, 50=0.007, 100=0.0057, 250=0.00476, 500=0.00406, 1000=0.00319, 5000=0.00267 (USD); Packaging: Cut Tape (CT); Part Status: Active; Capacitance: 9pF; Voltage - Rated: 50V; Operating Temperature: -55°C ~ 125°C; Features: -; Ratings: -; Applications: General Purpose; Mounting Type: Surface Mount, MLCC; Size / Dimension: 0.039" L x 0.020" W (1.00mm x 0.50mm); Height - Seated (Max): -; Thickness (Max): 0.022" (0.55mm); Lead Spacing: -; Lead Style: -; ComponentLink1URL: http://www.murata.com/~/media/webrenewal/support/library/catalog/products/capacitor/mlcc/c02e.ashx; ComponentLink1Description: http://www.murata.com/~/media/webrenewal/support/library/catalog/products/capacitor/mlcc/c02e.ashx
footprint C 0402 (Chip Capacitor, 2-Leads, Body 1.0x0.5mm, IPC Medium Density)
pins: 1, 2